# Altium footprint library HTSSOP-48.PcbLib: 1 footprints
Each footprint in its own frame and in the unit in brackets; x right, y up, seen from the top. Pads: shape width x height; smd on the part's side, far side on the other; paste and mask are expansions set on the pad; w line width, h text height; cw(c..) or ccw(c..) is an arc to the next point about the centre after c.
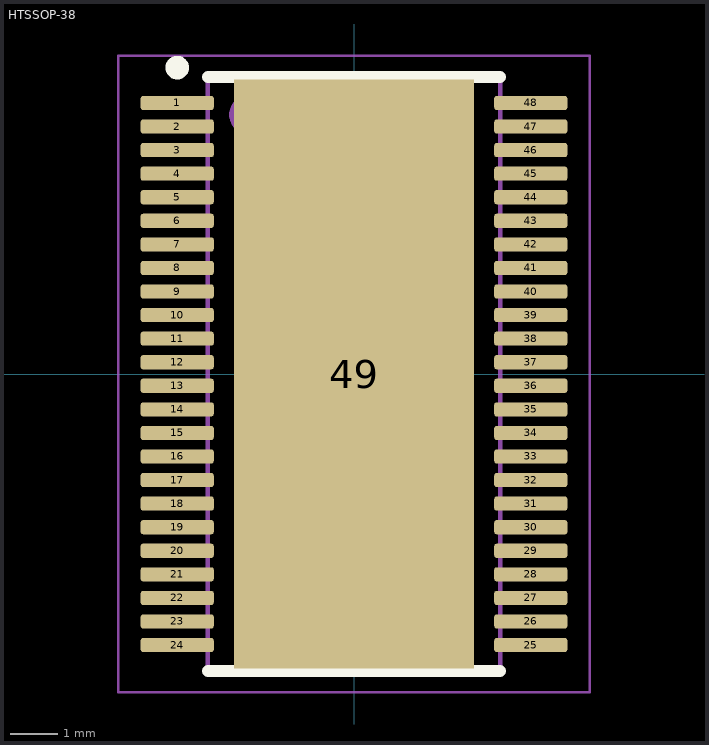
[diagram p0: the footprint, top view; thin cyan lines are the x and y axes]

## HTSSOP-38 [mm] "PowerPAD TSSOP"
height 1.2
pads (49):
  rrect34% 1.55x0.3 smd mask+0.05: 1(-3.75,5.75) 2(-3.75,5.25) 3(-3.75,4.75) 4(-3.75,4.25) 5(-3.75,3.75) 6(-3.75,3.25) 7(-3.75,2.75) 8(-3.75,2.25) 9(-3.75,1.75) 10(-3.75,1.25) 11(-3.75,0.75) 12(-3.75,0.25) 13(-3.75,-0.25) 14(-3.75,-0.75) 15(-3.75,-1.25) 16(-3.75,-1.75) 17(-3.75,-2.25) 18(-3.75,-2.75) 19(-3.75,-3.25) 20(-3.75,-3.75) 21(-3.75,-4.25) 22(-3.75,-4.75) 23(-3.75,-5.25) 24(-3.75,-5.75) 25(3.75,-5.75) 26(3.75,-5.25) 27(3.75,-4.75) 28(3.75,-4.25) 29(3.75,-3.75) 30(3.75,-3.25) 31(3.75,-2.75) 32(3.75,-2.25) 33(3.75,-1.75) 34(3.75,-1.25) 35(3.75,-0.75) 36(3.75,-0.25) 37(3.75,0.25) 38(3.75,0.75) 39(3.75,1.25) 40(3.75,1.75) 41(3.75,2.25) 42(3.75,2.75) 43(3.75,3.25) 44(3.75,3.75) 45(3.75,4.25) 46(3.75,4.75) 47(3.75,5.25) 48(3.75,5.75)
  rect 5.1x12.5 smd paste-2539.97 mask-2539.97: 49(0,0)
Top Overlay:
  circle w0.25: c-3.75,6.5 r0.125
  lines w0.25: -3.1,-6.3 3.1,-6.3 ; -3.1,6.3 3.1,6.3
Top Paste:
  region: -1.8,-3.2 -1.8,3.2 1.8,3.2 1.8,-3.2
Top Solder:
  region: -1.8,-3.2 -1.8,3.2 1.8,3.2 1.8,-3.2
Top Assembly:
  circle w0.4: c-2.25,5.5 r0.2
  lines w0.1: -3.1,-6.3 -3.1,6.3 3.1,6.3 3.1,-6.3 -3.1,-6.3
Top Courtyard:
  lines w0.05: -5,-6.75 5,-6.75 5,6.75 -5,6.75 -5,-6.75
Top Designator:
  text ".Designator" at -4.998,-0.333 h1
3D body "DCA0048B.stp": height 1.13, standoff 0, extent -4.05,-6.25 4.05,6.25